# Altium schematic symbol library SCH - DIODES - CMSH2-60M_TR13_PBFREE.SCHLIB: 1 symbol
Pins are listed as number, name and electrical type; pins without a type are passive.

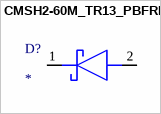
[diagram p0: symbol CMSH2-60M_TR13_PBFREE]

## CMSH2-60M_TR13_PBFREE
designator D?
Schottky Diode; Manufacturer_Name: Central Semiconductor; Manufacturer_Part_Number: CMSH2-60M TR13 PBFREE; Datasheet Link: https://my.centralsemi.com/datasheets/CMSH2-20M_40M_60M_100M.PDF; Height: 2.62mm
footprint DIOM5226X262N
pins: 1 K, 2 A